# Altium schematic symbol library Touch Key 1.Schlib: 1 symbol
Pins are listed as number, name and electrical type; pins without a type are passive.

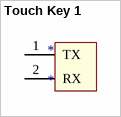
[diagram p0: symbol Touch Key 1]

## Touch Key 1
designator *
pins: 1 TX, 2 RX